# Altium footprint library CECR.PcbLib: 1 footprints
Each footprint in its own frame and in the unit in brackets; x right, y up, seen from the top. Pads: shape width x height; smd on the part's side, far side on the other; paste and mask are expansions set on the pad; w line width, h text height; cw(c..) or ccw(c..) is an arc to the next point about the centre after c.
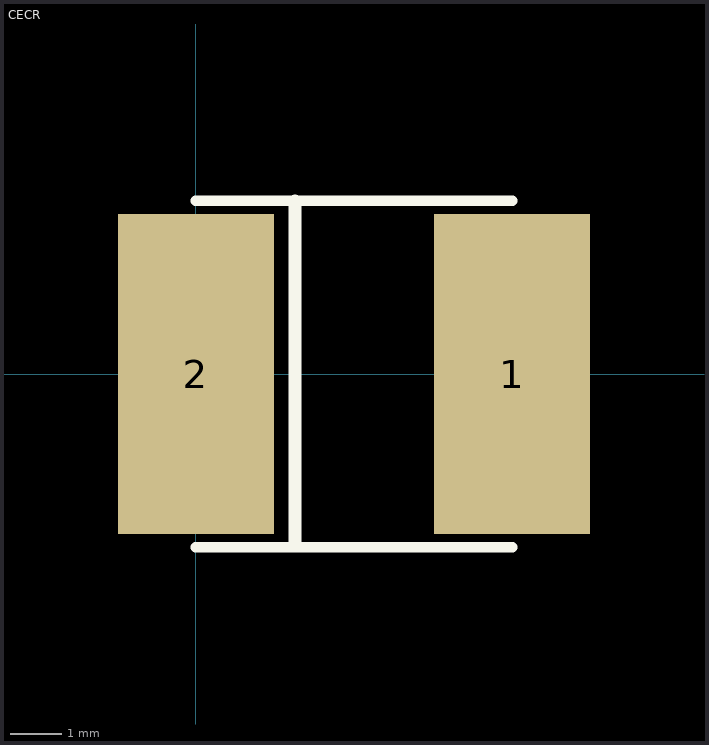
[diagram p0: the footprint, top view; thin cyan lines are the x and y axes]

## CECR [mil]
pads (2):
  rect 120x246 smd: 1(243,0) 2(0,0)
TopOverlay:
  lines w8: 0,-133 243,-133 ; 0,133 243,133
  lines w10: 76,-132 76,133